# Altium schematic symbol library SCH_Connector.SchLib: 39 symbols
Pins are listed as number, name and electrical type; pins without a type are passive.

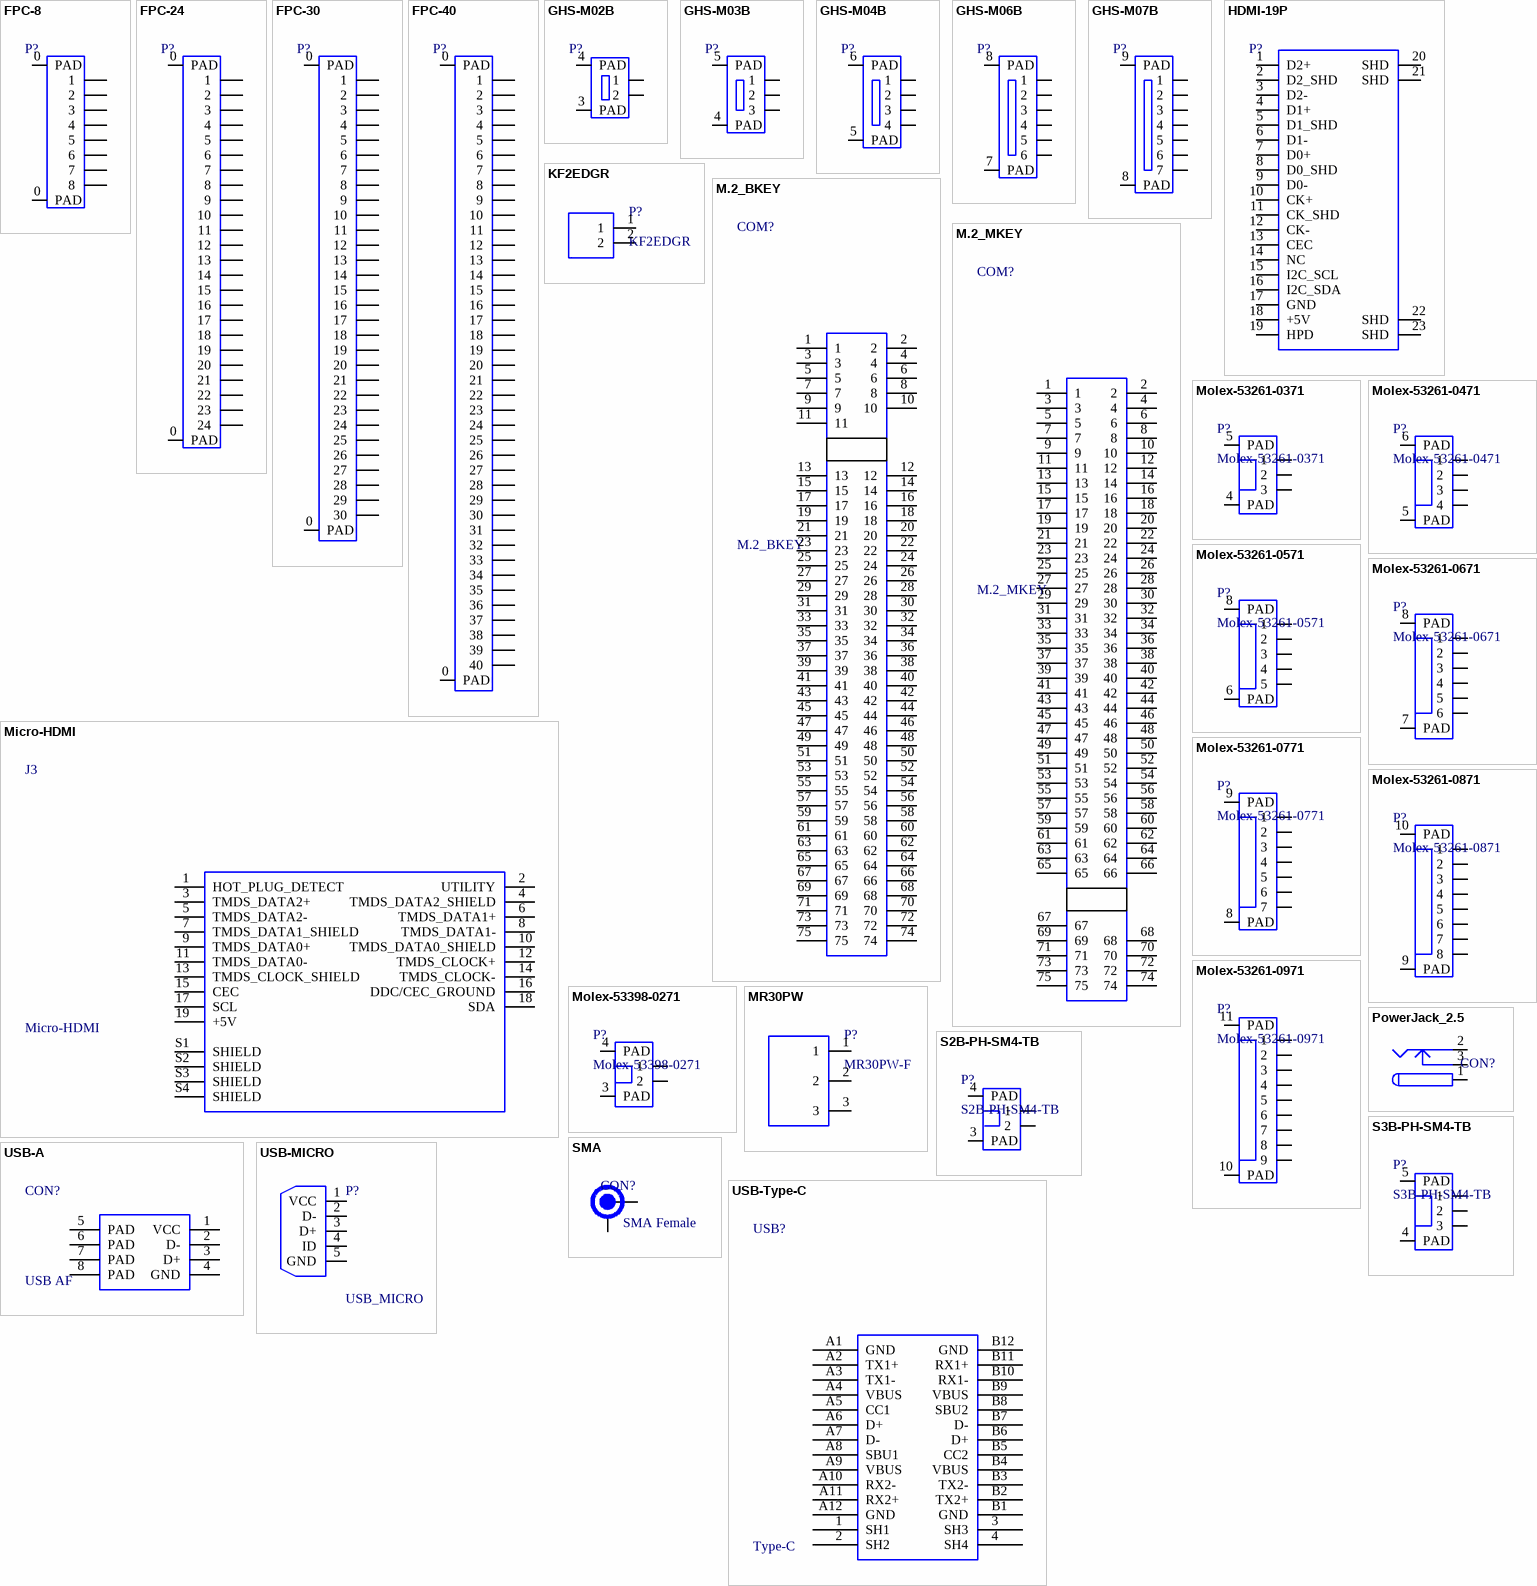
[diagram p0: symbols FPC-8 to USB-Type-C]

## FPC-8
designator P?  (value not drawn)
FPC-8座
footprint FFC_0.5_8
pins: 0 PAD, 0 PAD, 1, 2, 3, 4, 5, 6, 7, 8

## FPC-24
designator P?  (value not drawn)
FPC-24座
footprint FFC_0.5_24
pins: 0 PAD, 0 PAD, 1, 2, 3, 4, 5, 6, 7, 8, 9, 10, 11, 12, 13, 14, 15, 16, 17, 18, 19, 20, 21, 22, 23, 24

## FPC-30
designator P?  (value not drawn)
FPC-30座
footprint FFC_0.5_30
pins: 0 PAD, 0 PAD, 1, 2, 3, 4, 5, 6, 7, 8, 9, 10, 11, 12, 13, 14, 15, 16, 17, 18, 19, 20, 21, 22, 23, 24, 25, 26, 27, 28, 29, 30

## FPC-40
designator P?  (value not drawn)
FPC-40座
footprint FFC_0.5_40
pins: 0 PAD, 0 PAD, 1, 2, 3, 4, 5, 6, 7, 8, 9, 10, 11, 12, 13, 14, 15, 16, 17, 18, 19, 20, 21, 22, 23, 24, 25, 26, 27, 28, 29, 30, 31, 32, 33, 34, 35, 36, 37, 38, 39, 40

## GHS-M02B
designator P?, comment GH02  (value not drawn)
02GH座
footprint BM02B-GHS-TBT (GH02立式)
footprint SM02B-GHS-TB (GH02卧式)
pins: 1, 2, 3 PAD, 4 PAD

## GHS-M03B
designator P?, comment GH03  (value not drawn)
03GH座
footprint BM03B-GHS-TBT (GH03立式)
footprint SM03B-GHS-TB (GH03卧式)
pins: 1, 2, 3, 4 PAD, 5 PAD

## GHS-M04B
designator P?, comment GH04  (value not drawn)
04GH座
footprint BM04B-GHS-TBT (GH04立式)
footprint SM04B-GHS-TB (GH04卧式)
pins: 1, 2, 3, 4, 5 PAD, 6 PAD

## GHS-M06B
designator P?, comment GH06  (value not drawn)
06GH座
footprint BM06B-GHS-TBT (GH06立式)
footprint SM06B-GHS-TB (GH06卧式)
pins: 1, 2, 3, 4, 5, 6, 7 PAD, 8 PAD

## GHS-M07B
designator P?, comment GH07  (value not drawn)
07GH座
footprint BM07B-GHS-TBT (Footprint not found)
footprint SM07B-GHS-TB (GH07卧式)
pins: 1, 2, 3, 4, 5, 6, 7, 8 PAD, 9 PAD

## HDMI-19P
designator P?, comment HDMI-019  (value not drawn)
HDMI-19座
footprint HDMI-SWM-19
pins: 1 D2+, 2 D2_SHD, 3 D2-, 4 D1+, 5 D1_SHD, 6 D1-, 7 D0+, 8 D0_SHD, 9 D0-, 10 CK+, 11 CK_SHD, 12 CK-, 13 CEC, 14 NC, 15 I2C_SCL, 16 I2C_SDA, 17 GND, 18 +5V, 19 HPD, 20 SHD, 21 SHD, 22 SHD, 23 SHD

## KF2EDGR
designator P?
footprint KF2EDGR-3.81.2P
pins: 1, 2

## M.2_BKEY
designator COM?
footprint M.2_BKEY_2260_PCB
pins: 1, 2, 3, 4, 5, 6, 7, 8, 9, 10, 11, 12, 13, 14, 15, 16, 17, 18, 19, 20, 21, 22, 23, 24, 25, 26, 27, 28, 29, 30, 31, 32, 33, 34, 35, 36, 37, 38, 39, 40, 41, 42, 43, 44, 45, 46, 47, 48, 49, 50, 51, 52, 53, 54, 55, 56, 57, 58, 59, 60, 61, 62, 63, 64, 65, 66, 67, 68, 69, 70, 71, 72, 73, 74, 75

## M.2_MKEY
designator COM?
footprint M.2_MKEY_2260_PCB
pins: 1, 2, 3, 4, 5, 6, 7, 8, 9, 10, 11, 12, 13, 14, 15, 16, 17, 18, 19, 20, 21, 22, 23, 24, 25, 26, 27, 28, 29, 30, 31, 32, 33, 34, 35, 36, 37, 38, 39, 40, 41, 42, 43, 44, 45, 46, 47, 48, 49, 50, 51, 52, 53, 54, 55, 56, 57, 58, 59, 60, 61, 62, 63, 64, 65, 66, 67, 68, 69, 70, 71, 72, 73, 74, 75

## Micro-HDMI
designator J3
Conn Micro HDMI RCP 19 POS 0.4mm Solder RA SMD 19 Terminal 1 Port Micro HDMI Embossed T/R; MF: Molex; MP: 0467650301; Package: None; Availability: Unavailable; SnapEDA_Link: https://www.snapeda.com/parts/0467650301/Molex/view-part/?ref=snap; Price: None; Value: *
footprint MICRO HDMI
pins: 1 HOT_PLUG_DETECT, 2 UTILITY, 3 TMDS_DATA2+, 4 TMDS_DATA2_SHIELD, 5 TMDS_DATA2-, 6 TMDS_DATA1+, 7 TMDS_DATA1_SHIELD, 8 TMDS_DATA1-, 9 TMDS_DATA0+, 10 TMDS_DATA0_SHIELD, 11 TMDS_DATA0-, 12 TMDS_CLOCK+, 13 TMDS_CLOCK_SHIELD, 14 TMDS_CLOCK-, 15 CEC, 16 DDC/CEC_GROUND, 17 SCL, 18 SDA, 19 +5V, S1 SHIELD, S2 SHIELD, S3 SHIELD, S4 SHIELD

## Molex-53261-0371
designator P?
1.25mm Pitch PicoBlade Header
footprint Molex-53261-0371 (卧式1.25mm Pitch PicoBlade Header)
pins: 1, 2, 3, 4 PAD, 5 PAD

## Molex-53261-0471
designator P?
1.25mm Pitch PicoBlade Header
footprint Molex-53261-0471 (卧式1.25mm Pitch PicoBlade Header)
pins: 1, 2, 3, 4, 5 PAD, 6 PAD

## Molex-53261-0571
designator P?
1.25mm Pitch PicoBlade Header
footprint Molex-53261-0671 (卧式1.25mm Pitch PicoBlade Header)
pins: 1, 2, 3, 4, 5, 6 PAD, 8 PAD

## Molex-53261-0671
designator P?
1.25mm Pitch PicoBlade Header
footprint Molex-53261-0671 (卧式1.25mm Pitch PicoBlade Header)
pins: 1, 2, 3, 4, 5, 6, 7 PAD, 8 PAD

## Molex-53261-0771
designator P?
1.25mm Pitch PicoBlade Header
footprint Molex-53261-0771 (卧式1.25mm Pitch PicoBlade Header)
pins: 1, 2, 3, 4, 5, 6, 7, 8 PAD, 9 PAD

## Molex-53261-0871
designator P?
1.25mm Pitch PicoBlade Header
footprint Molex-53261-0871 (卧式1.25mm Pitch PicoBlade Header)
pins: 1, 2, 3, 4, 5, 6, 7, 8, 9 PAD, 10 PAD

## Molex-53261-0971
designator P?
1.25mm Pitch PicoBlade Header
footprint Molex-53261-0971 (卧式1.25mm Pitch PicoBlade Header)
pins: 1, 2, 3, 4, 5, 6, 7, 8, 9, 10 PAD, 11 PAD

## Molex-53398-0271
designator P?
1.25mm Pitch PicoBlade Header
footprint Molex-53398-0271 (立式1.25mm Pitch PicoBlade Header)
footprint Molex-53261-0271 (卧式1.25mm Pitch PicoBlade Header)
pins: 1, 2, 3 PAD, 4 PAD

## MR30PW
designator P?, comment MR30PW-F
XT30_3
footprint MR30PW-F
footprint MR30PW-M
pins: 1, 2, 3

## PowerJack_2.5
designator CON?  (value not drawn)
DC Power Jack
footprint KLD_0202
pins: 1 (power), 2 (power), 3 (power)

## S2B-PH-SM4-TB
designator P?
2.0mm Pitch  Crimp Style Connectors
footprint PH2.0-2P (卧式PH2.0mm Pitch Header)
pins: 1, 2, 3 PAD, 4 PAD

## S3B-PH-SM4-TB
designator P?
2.0mm Pitch  Crimp Style Connectors
footprint PH2.0-3P (卧式PH2.0mm Pitch Header)
pins: 1, 2, 3, 4 PAD, 5 PAD

## SMA
designator CON?  type: SMA Female  (hidden comment: SMA)
footprint SMA_KE_90
pins: 1, 2

## USB-A
designator CON?, comment USB AF
footprint UBS-AF10.0-SMD (Footprint not found)
footprint USB_A(M)_DIP
footprint USB_A(M)_SMD
pins: 1 VCC, 2 D-, 3 D+, 4 GND, 5 PAD, 6 PAD, 7 PAD, 8 PAD

## USB-MICRO
designator P?, comment USB_MICRO
footprint USB_Micro-AB
pins: 1 VCC, 2 D-, 3 D+, 4 ID, 5 GND

## USB-Type-C
designator USB?, comment Type-C
footprint USB-Type-C
pins: 1 SH1, 2 SH2, 3 SH3, 4 SH4, A1 GND, A2 TX1+, A3 TX1-, A4 VBUS, A5 CC1, A6 D+, A7 D-, A8 SBU1, A9 VBUS, A10 RX2-, A11 RX2+, A12 GND, B1 GND, B2 TX2+, B3 TX2-, B4 VBUS, B5 CC2, B6 D+, B7 D-, B8 SBU2, B9 VBUS, B10 RX1-, B11 RX1+, B12 GND

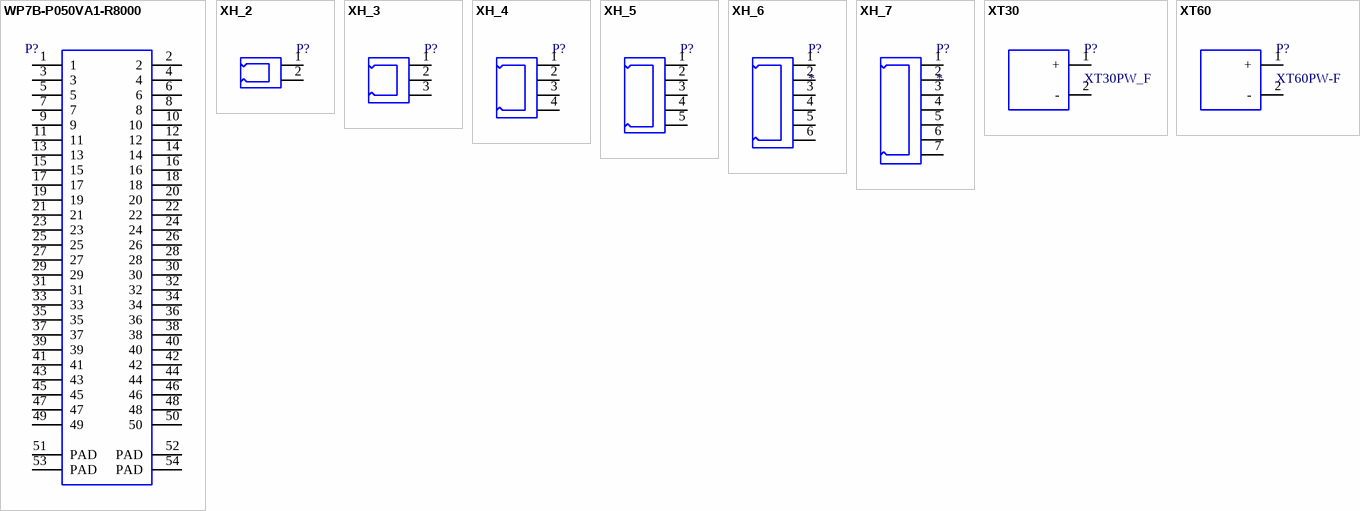
[diagram p1: symbols WP7B-P050VA1-R8000 to XT60]

## WP7B-P050VA1-R8000
designator P?  (value not drawn)
footprint WP7B-P050VA1-R8000
pins: 1, 2, 3, 4, 5, 6, 7, 8, 9, 10, 11, 12, 13, 14, 15, 16, 17, 18, 19, 20, 21, 22, 23, 24, 25, 26, 27, 28, 29, 30, 31, 32, 33, 34, 35, 36, 37, 38, 39, 40, 41, 42, 43, 44, 45, 46, 47, 48, 49, 50, 51 PAD, 52 PAD, 53 PAD, 54 PAD

## XH_2
designator P?  (value not drawn)
footprint XH_2
footprint XH_2-SLEEP
pins: 1, 2

## XH_3
designator P?  (value not drawn)
footprint XH_3
footprint XH_3-sleep
pins: 1, 2, 3

## XH_4
designator P?  (value not drawn)
footprint XH_4
footprint XH_4-sleep
pins: 1, 2, 3, 4

## XH_5
designator P?  (value not drawn)
footprint XH_5
footprint XH_5-sleep
pins: 1, 2, 3, 4, 5

## XH_6
designator P?
footprint XH_6
footprint XH_6-sleep
pins: 1, 2, 3, 4, 5, 6

## XH_7
designator P?
footprint XH_7
footprint XH_7-sleep
pins: 1, 2, 3, 4, 5, 6, 7

## XT30
designator P?, comment XT30PW_F
XT30
footprint XT30PW-F
footprint XT30PW-M
footprint XT30UPB-F
footprint XT30UPB-M
pins: 1 +, 2 -

## XT60
designator P?, comment XT60PW-F
XT60
footprint XT60PW-F
footprint XT60PW-M
footprint XT60UPB-F
footprint XT60UPB-M
pins: 1 +, 2 -